# Altium schematic symbol library Borne_2.SchLib: 1 symbol
Pins are listed as number, name and electrical type; pins without a type are passive.

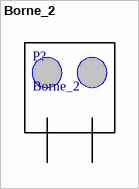
[diagram p0: symbol Borne_2]

## Borne_2
designator P?
Borne de dos pines
footprint PCBComponent_1
pins: 1, 2